# Altium footprint library PcbLib1.PcbLib: 2 footprints
Each footprint in its own frame and in the unit in brackets; x right, y up, seen from the top. Pads: shape width x height; smd on the part's side, far side on the other; paste and mask are expansions set on the pad; w line width, h text height; cw(c..) or ccw(c..) is an arc to the next point about the centre after c.
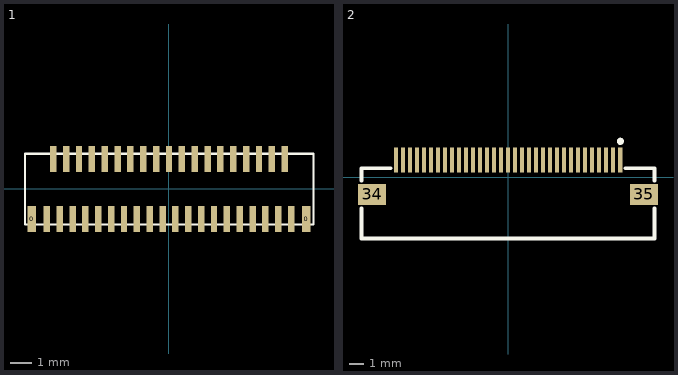
[diagram p0: the footprints below, top view; thin cyan lines are the x and y axes]

## 1 [mm]
pads (41):
  rect 0.4x1.2 smd: 0(-6.4,-1.4) 0(6.4,-1.4)
  rect 0.3x1.2 smd: 1(-5.7,-1.4) 2(-5.4,1.4) 3(-5.1,-1.4) 4(-4.8,1.4) 5(-4.5,-1.4) 6(-4.2,1.4) 7(-3.9,-1.4) 8(-3.6,1.4) 9(-3.3,-1.4) 10(-3,1.4) 11(-2.7,-1.4) 12(-2.4,1.4) 13(-2.1,-1.4) 14(-1.8,1.4) 15(-1.5,-1.4) 16(-1.2,1.4) 17(-0.9,-1.4) 18(-0.6,1.4) 19(-0.3,-1.4) 20(0,1.4) 21(0.3,-1.4) 22(0.6,1.4) 23(0.9,-1.4) 24(1.2,1.4) 25(1.5,-1.4) 26(1.8,1.4) 27(2.1,-1.4) 28(2.4,1.4) 29(2.7,-1.4) 30(3,1.4) 31(3.3,-1.4) 32(3.6,1.4) 33(3.9,-1.4) 34(4.2,1.4) 35(4.5,-1.4) 36(4.8,1.4) 37(5.1,-1.4) 38(5.4,1.4) 39(5.7,-1.4)
Top Overlay:
  lines w0.1: -6.716,-1.654 -6.716,1.648 6.746,1.648 6.746,-1.654 -6.716,-1.654

## 2 [mm]
pads (35):
  rect 0.3x1.8 smd mask+0.051: 1(8,1.225) 2(7.5,1.225) 3(7,1.225) 4(6.5,1.225) 5(6,1.225) 6(5.5,1.225) 7(5,1.225) 8(4.5,1.225) 9(4,1.225) 10(3.5,1.225) 11(3,1.225) 12(2.5,1.225) 13(2,1.225) 14(1.5,1.225) 15(1,1.225) 16(0.5,1.225) 17(0,1.225) 18(-0.5,1.225) 19(-1,1.225) 20(-1.5,1.225) 21(-2,1.225) 22(-2.5,1.225) 23(-3,1.225) 24(-3.5,1.225) 25(-4,1.225) 26(-4.5,1.225) 27(-5,1.225) 28(-5.5,1.225) 29(-6,1.225) 30(-6.5,1.225) 31(-7,1.225) 32(-7.5,1.225) 33(-8,1.225)
  rect 2x1.5 smd mask+0.051: 34(-9.7,-1.225) 35(9.7,-1.225)
Top Overlay:
  circle w0.254: c8.013,2.561 r0.127
  lines w0.254: -10.45,-2.206 -10.45,-4.375 10.45,-4.375 10.45,-2.206 ; -10.45,-0.244 -10.45,0.625 -8.381,0.625 ; 8.381,0.625 10.45,0.625 10.45,-0.244